# Altium integrated library TI Power Management Linear Regulator Single Channel LDO (400-7500mA).IntLib: 1408 symbols (part 9 of 60)
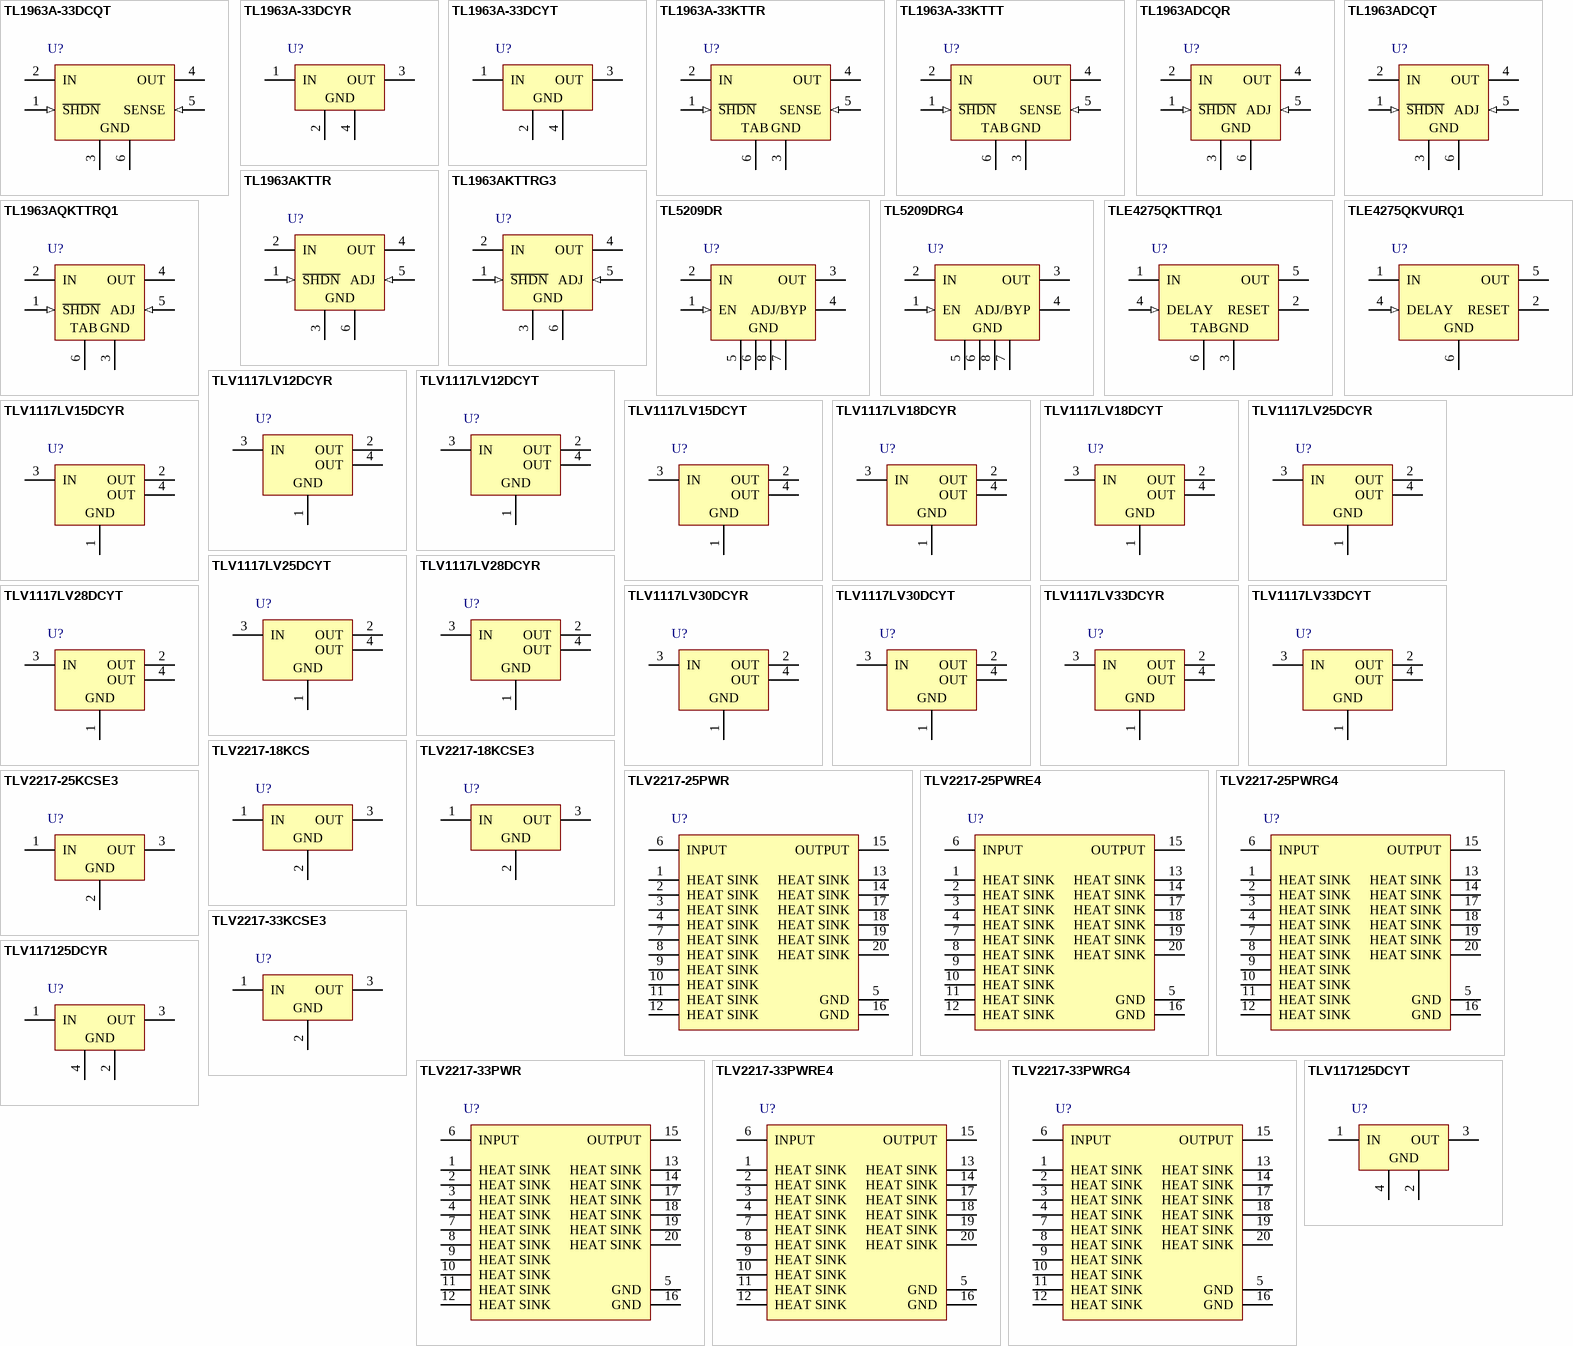
[diagram p58: symbols TL1963A-33DCQT to TLV117125DCYT]

## TLV1117LV33DCYT
designator U?
Single Output LDO, 1 A, Fixed 3.3 V Output, 2 to 5.5 V Input, 4-pin SOT-223 (DCY), -40 to 125 degC, Green (RoHS & no Sb/Br); Manufacturer: Texas Instruments; PartNumber: TLV1117LV33DCYT; Accuracy(%): 2; Fixed Output Options(V): 3.3; Iout(Max)(A): 1; Iq(Typ)(mA): 0.05; SubFamily: Single Channel LDO; Vdo(Typ)(mV): 1200; Vin(Max)(V): 5.5; DatasheetVersion: SBVS160A; PackageVersion: 4202506/B; PackageReference: DCY4; PackageDescription: 4-Pin Plastic Small Outline, Body 3.5 x 6.5 mm, Pitch 2.3 mm; Supplier 1: Digi-Key; Supplier Part Number 1: TLV1117LV33DCYT-ND; Supplier 2: Newark; Supplier Part Number 2: 48T4645; Supplier 3: Mouser; Supplier Part Number 3: 595-TLV1117LV33DCYT; Eco-Plan: Green (RoHS & no Sb/Br); Vin(Min)(V): 2; Vout Adj(Max)(V): 3.3; Vout Adj(Min)(V): 3.3; Mounting Technology: Surface Mount; Code_JEDEC: TO-261; ComponentLink1Description: Manufacturer URL; ComponentLink1URL: http://www.ti.com/; ComponentLink2Description: Datasheet; ComponentLink2URL: http://www.ti.com/general/docs/lit/getliterature.tsp?genericPartNumber=TLV1117LV33&fileType=pdf; ComponentLink3Description: Package Specification; ComponentLink3URL: http://www.ti.com/litv/pdf/mpds094a
footprint TI-DCY4_N (SOT223, 4-Leads, Body 6.5x3.5mm, Pitch 2.3mm, IPC Medium Density)
footprint TI-DCY4_L (SOT223, 4-Leads, Body 6.5x3.5mm, Pitch 2.3mm, IPC High Density)
footprint TI-DCY4_M (SOT223, 4-Leads, Body 6.5x3.5mm, Pitch 2.3mm, IPC Low Density)
pins: 1 GND (power) "Ground pin", 2 OUT (power) "Regulated output voltage pin.", 3 IN (power) "Input pin.", 4 OUT (power) "Regulated output voltage pin."

## TLV2217-18KCS
designator U?
Single Output LDO, 500 mA, Fixed 1.8 V Output, 3 to 12 V Input, with Thermal Overload Protection, 3-pin TO-220 (KCS), 0 to 125 degC, Pb-Free (RoHS); Manufacturer: Texas Instruments; PartNumber: TLV2217-18KCS; Accuracy(%): 2; Fixed Output Options(V): 1.8; Iout(Max)(A): 0.5; Iq(Typ)(mA): 0.19; Rating: Catalog; SubFamily: Single Channel LDO; Vdo(Typ)(mV): 500; Vin(Max)(V): 12; Vin(Min)(V): 3; DatasheetVersion: SLVS067L; PackageVersion: 4204749/E; PackageReference: KCS3; PackageDescription: 3-Pin Plastic Flange Mount; Supplier 1: Digi-Key; Supplier Part Number 1: 296-18905-5-ND; Supplier 2: Digi-Key; Supplier Part Number 2: 296-18905-2-ND; Supplier 3: Newark; Supplier Part Number 3: 21J9143; Supplier 4: Mouser; Supplier Part Number 4: 595-TLV2217-18KCS; Eco-Plan: Pb-Free (RoHS); Vout Adj(Max)(V): 1.8; Vout Adj(Min)(V): 1.8; Mounting Technology: Through Hole; Code_JEDEC: TO-220; ComponentLink1Description: Manufacturer URL; ComponentLink1URL: http://www.ti.com/; ComponentLink2Description: Datasheet; ComponentLink2URL: http://www.ti.com/general/docs/lit/getliterature.tsp?genericPartNumber=TLV2217-18&fileType=pdf; ComponentLink3Description: Package Specification; ComponentLink3URL: http://www.ti.com/litv/pdf/mpsf017d; ComponentLink4Description: URL Link1; ComponentLink4URL: Samples URL:http://www.ti.com/product/tlv2217-18#samples
footprint TI-KCS3 (Flange Mount, 3-Leads, Body 10.16x4.51mm, Pitch 2.54mm)
pins: 1 IN (power), 2 GND (power), 3 OUT (power)

## TLV2217-18KCSE3
designator U?
Single Output LDO, 500 mA, Fixed 1.8 V Output, 3 to 12 V Input, with Thermal Overload Protection, 3-pin TO-220 (KCS), 0 to 125 degC, Pb-Free (RoHS); Manufacturer: Texas Instruments; PartNumber: TLV2217-18KCSE3; Accuracy(%): 2; Fixed Output Options(V): 1.8; Iout(Max)(A): 0.5; Iq(Typ)(mA): 0.19; Rating: Catalog; SubFamily: Single Channel LDO; Vdo(Typ)(mV): 500; Vin(Max)(V): 12; Vin(Min)(V): 3; DatasheetVersion: SLVS067L; PackageVersion: 4204749/E; PackageReference: KCS3; PackageDescription: 3-Pin Plastic Flange Mount; Supplier 1: Digi-Key; Supplier Part Number 1: TLV2217-18KCSE3-ND; Supplier 2: Newark; Supplier Part Number 2: 70K5530; Supplier 3: Mouser; Supplier Part Number 3: 595-TLV2217-18KCSE3; Eco-Plan: Pb-Free (RoHS); Vout Adj(Max)(V): 1.8; Vout Adj(Min)(V): 1.8; Mounting Technology: Through Hole; Code_JEDEC: TO-220; ComponentLink1Description: Manufacturer URL; ComponentLink1URL: http://www.ti.com/; ComponentLink2Description: Datasheet; ComponentLink2URL: http://www.ti.com/general/docs/lit/getliterature.tsp?genericPartNumber=TLV2217-18&fileType=pdf; ComponentLink3Description: Package Specification; ComponentLink3URL: http://www.ti.com/litv/pdf/mpsf017d; ComponentLink4Description: URL Link1; ComponentLink4URL: Samples URL:http://www.ti.com/product/tlv2217-18#samples
footprint TI-KCS3 (Flange Mount, 3-Leads, Body 10.16x4.51mm, Pitch 2.54mm)
pins: 1 IN (power), 2 GND (power), 3 OUT (power)

## TLV2217-25KCSE3
designator U?
Single Output LDO, 500 mA, Fixed 2.5 V Output, 3 to 12 V Input, with Thermal Overload Protection, 3-pin TO-220 (KCS), 0 to 125 degC, Pb-Free (RoHS); Manufacturer: Texas Instruments; PartNumber: TLV2217-25KCSE3; Accuracy(%): 2; Fixed Output Options(V): 2.5; Iout(Max)(A): 0.5; Iq(Typ)(mA): 0.19; Rating: Catalog; SubFamily: Single Channel LDO; Vdo(Typ)(mV): 500; Vin(Max)(V): 12; Vin(Min)(V): 3; DatasheetVersion: SLVS067L; PackageVersion: 4204749/E; PackageReference: KCS3; PackageDescription: 3-Pin Plastic Flange Mount; Supplier 1: Digi-Key; Supplier Part Number 1: 296-21609-5-ND; Supplier 2: Newark; Supplier Part Number 2: 85K1638; Supplier 3: Mouser; Supplier Part Number 3: 595-TLV2217-25KCSE3; Eco-Plan: Pb-Free (RoHS); Vout Adj(Max)(V): 2.5; Vout Adj(Min)(V): 2.5; Mounting Technology: Through Hole; Code_JEDEC: TO-220; ComponentLink1Description: Manufacturer URL; ComponentLink1URL: http://www.ti.com/; ComponentLink2Description: Datasheet; ComponentLink2URL: http://www.ti.com/general/docs/lit/getliterature.tsp?genericPartNumber=TLV2217-25&fileType=pdf; ComponentLink3Description: Package Specification; ComponentLink3URL: http://www.ti.com/litv/pdf/mpsf017d; ComponentLink4Description: URL Link1; ComponentLink4URL: Samples URL:http://www.ti.com/product/tlv2217-25#samples
footprint TI-KCS3 (Flange Mount, 3-Leads, Body 10.16x4.51mm, Pitch 2.54mm)
pins: 1 IN (power), 2 GND (power), 3 OUT (power)

## TLV2217-25PWR
designator U?
Single Output LDO, 500 mA, Fixed 2.5 V Output, 3 to 12 V Input, with Thermal Overload Protection, 20-pin TSSOP (PW), 0 to 125 degC, Green (RoHS & no Sb/Br); Manufacturer: Texas Instruments; PartNumber: TLV2217-25PWR; Accuracy(%): 2; Fixed Output Options(V): 2.5; Iout(Max)(A): 0.5; Iq(Typ)(mA): 0.19; Rating: Catalog; SubFamily: Single Channel LDO; Vdo(Typ)(mV): 500; Vin(Max)(V): 12; Vin(Min)(V): 3; DatasheetVersion: SLVS067L; PackageVersion: 4040064-5/G; PackageReference: PW20; PackageDescription: 20-Pin Plastic Small Outline, Body 6.5 x 4.4 mm, 0.65 mm Pitch; Supplier 1: Digi-Key; Supplier Part Number 1: 296-18907-2-ND; Supplier 2: Digi-Key; Supplier Part Number 2: 296-18907-1-ND; Supplier 3: Digi-Key; Supplier Part Number 3: 296-18907-6-ND; Supplier 4: Mouser; Supplier Part Number 4: 595-TLV2217-25PWR; Eco-Plan: Green (RoHS & no Sb/Br); Vout Adj(Max)(V): 2.5; Vout Adj(Min)(V): 2.5; Mounting Technology: Surface Mount; Code_JEDEC: MO-153; ComponentLink1Description: Manufacturer URL; ComponentLink1URL: http://www.ti.com/; ComponentLink2Description: Datasheet; ComponentLink2URL: http://www.ti.com/general/docs/lit/getliterature.tsp?genericPartNumber=TLV2217-25&fileType=pdf; ComponentLink3Description: Package Specification; ComponentLink3URL: http://www.ti.com.cn/cn/lit/ml/mpds362/mpds362.pdf; ComponentLink4Description: URL Link1; ComponentLink4URL: Samples URL:http://www.ti.com/product/tlv2217-25#samples
footprint TI-PW20_N (SOP, 20-Leads, Body 6.5x4.4mm, Pitch 0.65mm, IPC Medium Density)
footprint TI-PW20_L (SOP, 20-Leads, Body 6.5x4.4mm, Pitch 0.65mm, IPC High Density)
footprint TI-PW20_M (SOP, 20-Leads, Body 6.5x4.4mm, Pitch 0.65mm, IPC Low Density)
pins: 1 HEAT SINK (power), 2 HEAT SINK (power), 3 HEAT SINK (power), 4 HEAT SINK (power), 5 GND (power), 6 INPUT (power), 7 HEAT SINK (power), 8 HEAT SINK (power), 9 HEAT SINK (power), 10 HEAT SINK (power), 11 HEAT SINK (power), 12 HEAT SINK (power), 13 HEAT SINK (power), 14 HEAT SINK (power), 15 OUTPUT (power), 16 GND (power), 17 HEAT SINK (power), 18 HEAT SINK (power), 19 HEAT SINK (power), 20 HEAT SINK (power)

## TLV2217-25PWRE4
designator U?
Single Output LDO, 500 mA, Fixed 2.5 V Output, 3 to 12 V Input, with Thermal Overload Protection, 20-pin TSSOP (PW), 0 to 125 degC, Green (RoHS & no Sb/Br); Manufacturer: Texas Instruments; PartNumber: TLV2217-25PWRE4; Accuracy(%): 2; Fixed Output Options(V): 2.5; Iout(Max)(A): 0.5; Iq(Typ)(mA): 0.19; Rating: Catalog; SubFamily: Single Channel LDO; Vdo(Typ)(mV): 500; Vin(Max)(V): 12; Vin(Min)(V): 3; DatasheetVersion: SLVS067L; PackageVersion: 4040064-5/G; PackageReference: PW20; PackageDescription: 20-Pin Plastic Small Outline, Body 6.5 x 4.4 mm, 0.65 mm Pitch; Supplier 1: Digi-Key; Supplier Part Number 1: TLV2217-25PWRE4-ND; Supplier 2: Newark; Supplier Part Number 2: 33K7257; Supplier 3: Mouser; Supplier Part Number 3: 595-TLV2217-25PWRE4; Eco-Plan: Green (RoHS & no Sb/Br); Vout Adj(Max)(V): 2.5; Vout Adj(Min)(V): 2.5; Mounting Technology: Surface Mount; Code_JEDEC: MO-153; ComponentLink1Description: Manufacturer URL; ComponentLink1URL: http://www.ti.com/; ComponentLink2Description: Datasheet; ComponentLink2URL: http://www.ti.com/general/docs/lit/getliterature.tsp?genericPartNumber=TLV2217-25&fileType=pdf; ComponentLink3Description: Package Specification; ComponentLink3URL: http://www.ti.com.cn/cn/lit/ml/mpds362/mpds362.pdf; ComponentLink4Description: URL Link1; ComponentLink4URL: Samples URL:http://www.ti.com/product/tlv2217-25#samples
footprint TI-PW20_N (SOP, 20-Leads, Body 6.5x4.4mm, Pitch 0.65mm, IPC Medium Density)
footprint TI-PW20_L (SOP, 20-Leads, Body 6.5x4.4mm, Pitch 0.65mm, IPC High Density)
footprint TI-PW20_M (SOP, 20-Leads, Body 6.5x4.4mm, Pitch 0.65mm, IPC Low Density)
pins: 1 HEAT SINK (power), 2 HEAT SINK (power), 3 HEAT SINK (power), 4 HEAT SINK (power), 5 GND (power), 6 INPUT (power), 7 HEAT SINK (power), 8 HEAT SINK (power), 9 HEAT SINK (power), 10 HEAT SINK (power), 11 HEAT SINK (power), 12 HEAT SINK (power), 13 HEAT SINK (power), 14 HEAT SINK (power), 15 OUTPUT (power), 16 GND (power), 17 HEAT SINK (power), 18 HEAT SINK (power), 19 HEAT SINK (power), 20 HEAT SINK (power)

## TLV2217-25PWRG4
designator U?
Single Output LDO, 500 mA, Fixed 2.5 V Output, 3 to 12 V Input, with Thermal Overload Protection, 20-pin TSSOP (PW), 0 to 125 degC, Green (RoHS & no Sb/Br); Manufacturer: Texas Instruments; PartNumber: TLV2217-25PWRG4; Accuracy(%): 2; Fixed Output Options(V): 2.5; Iout(Max)(A): 0.5; Iq(Typ)(mA): 0.19; Rating: Catalog; SubFamily: Single Channel LDO; Vdo(Typ)(mV): 500; Vin(Max)(V): 12; Vin(Min)(V): 3; DatasheetVersion: SLVS067L; PackageVersion: 4040064-5/G; PackageReference: PW20; PackageDescription: 20-Pin Plastic Small Outline, Body 6.5 x 4.4 mm, 0.65 mm Pitch; Supplier 1: Digi-Key; Supplier Part Number 1: TLV2217-25PWRG4-ND; Supplier 2: Mouser; Supplier Part Number 2: 595-TLV2217-25PWRG4; Eco-Plan: Green (RoHS & no Sb/Br); Vout Adj(Max)(V): 2.5; Vout Adj(Min)(V): 2.5; Mounting Technology: Surface Mount; Code_JEDEC: MO-153; ComponentLink1Description: Manufacturer URL; ComponentLink1URL: http://www.ti.com/; ComponentLink2Description: Datasheet; ComponentLink2URL: http://www.ti.com/general/docs/lit/getliterature.tsp?genericPartNumber=TLV2217-25&fileType=pdf; ComponentLink3Description: Package Specification; ComponentLink3URL: http://www.ti.com.cn/cn/lit/ml/mpds362/mpds362.pdf; ComponentLink4Description: URL Link1; ComponentLink4URL: Samples URL:http://www.ti.com/product/tlv2217-25#samples
footprint TI-PW20_N (SOP, 20-Leads, Body 6.5x4.4mm, Pitch 0.65mm, IPC Medium Density)
footprint TI-PW20_L (SOP, 20-Leads, Body 6.5x4.4mm, Pitch 0.65mm, IPC High Density)
footprint TI-PW20_M (SOP, 20-Leads, Body 6.5x4.4mm, Pitch 0.65mm, IPC Low Density)
pins: 1 HEAT SINK (power), 2 HEAT SINK (power), 3 HEAT SINK (power), 4 HEAT SINK (power), 5 GND (power), 6 INPUT (power), 7 HEAT SINK (power), 8 HEAT SINK (power), 9 HEAT SINK (power), 10 HEAT SINK (power), 11 HEAT SINK (power), 12 HEAT SINK (power), 13 HEAT SINK (power), 14 HEAT SINK (power), 15 OUTPUT (power), 16 GND (power), 17 HEAT SINK (power), 18 HEAT SINK (power), 19 HEAT SINK (power), 20 HEAT SINK (power)

## TLV2217-33KCSE3
designator U?
Single Output LDO, 500 mA, Fixed 3.3 V Output, 3 to 12 V Input, with Thermal Overload Protection, 3-pin TO-220 (KCS), 0 to 125 degC, Pb-Free (RoHS); Manufacturer: Texas Instruments; PartNumber: TLV2217-33KCSE3; Accuracy(%): 2; Fixed Output Options(V): 3.3; Iout(Max)(A): 0.5; Iq(Typ)(mA): 0.29; Rating: Military; SubFamily: Single Channel LDO; Vdo(Typ)(mV): 500; Vin(Max)(V): 12; Vin(Min)(V): 3; DatasheetVersion: SLVS067L; PackageVersion: 4204749/E; PackageReference: KCS3; PackageDescription: 3-Pin Plastic Flange Mount; Supplier 1: Digi-Key; Supplier Part Number 1: 296-21611-5-ND; Supplier 2: Newark; Supplier Part Number 2: 84K3791; Supplier 3: Mouser; Supplier Part Number 3: 595-TLV2217-33KCSE3; Eco-Plan: Pb-Free (RoHS); Vout Adj(Max)(V): 3.3; Vout Adj(Min)(V): 3.3; Mounting Technology: Through Hole; Code_JEDEC: TO-220; ComponentLink1Description: Manufacturer URL; ComponentLink1URL: http://www.ti.com/; ComponentLink2Description: Datasheet; ComponentLink2URL: http://www.ti.com/general/docs/lit/getliterature.tsp?genericPartNumber=TLV2217-33&fileType=pdf; ComponentLink3Description: Package Specification; ComponentLink3URL: http://www.ti.com/litv/pdf/mpsf017d; ComponentLink4Description: URL Link1; ComponentLink4URL: Samples URL:http://www.ti.com/product/tlv2217-33#samples
footprint TI-KCS3 (Flange Mount, 3-Leads, Body 10.16x4.51mm, Pitch 2.54mm)
pins: 1 IN (power), 2 GND (power), 3 OUT (power)

## TLV2217-33PWR
designator U?
Single Output LDO, 500 mA, Fixed 3.3 V Output, 3 to 12 V Input, with Thermal Overload Protection, 20-pin TSSOP (PW), 0 to 125 degC, Green (RoHS & no Sb/Br); Manufacturer: Texas Instruments; PartNumber: TLV2217-33PWR; Accuracy(%): 2; Fixed Output Options(V): 3.3; Iout(Max)(A): 0.5; Iq(Typ)(mA): 0.29; Rating: Military; SubFamily: Single Channel LDO; Vdo(Typ)(mV): 500; Vin(Max)(V): 12; Vin(Min)(V): 3; DatasheetVersion: SLVS067L; PackageVersion: 4040064-5/G; PackageReference: PW20; PackageDescription: 20-Pin Plastic Small Outline, Body 6.5 x 4.4 mm, 0.65 mm Pitch; Supplier 1: Digi-Key; Supplier Part Number 1: 296-12368-2-ND; Supplier 2: Digi-Key; Supplier Part Number 2: 296-12368-1-ND; Supplier 3: Digi-Key; Supplier Part Number 3: 296-12368-6-ND; Supplier 4: Newark; Supplier Part Number 4: 76C7832; Supplier 5: Mouser; Supplier Part Number 5: 595-TLV2217-33PWR; Eco-Plan: Green (RoHS & no Sb/Br); Vout Adj(Max)(V): 3.3; Vout Adj(Min)(V): 3.3; Mounting Technology: Surface Mount; Code_JEDEC: MO-153; ComponentLink1Description: Manufacturer URL; ComponentLink1URL: http://www.ti.com/; ComponentLink2Description: Datasheet; ComponentLink2URL: http://www.ti.com/general/docs/lit/getliterature.tsp?genericPartNumber=TLV2217-33&fileType=pdf; ComponentLink3Description: Package Specification; ComponentLink3URL: http://www.ti.com.cn/cn/lit/ml/mpds362/mpds362.pdf; ComponentLink4Description: URL Link1; ComponentLink4URL: Samples URL:http://www.ti.com/product/tlv2217-33#samples
footprint TI-PW20_N (SOP, 20-Leads, Body 6.5x4.4mm, Pitch 0.65mm, IPC Medium Density)
footprint TI-PW20_L (SOP, 20-Leads, Body 6.5x4.4mm, Pitch 0.65mm, IPC High Density)
footprint TI-PW20_M (SOP, 20-Leads, Body 6.5x4.4mm, Pitch 0.65mm, IPC Low Density)
pins: 1 HEAT SINK (power), 2 HEAT SINK (power), 3 HEAT SINK (power), 4 HEAT SINK (power), 5 GND (power), 6 INPUT (power), 7 HEAT SINK (power), 8 HEAT SINK (power), 9 HEAT SINK (power), 10 HEAT SINK (power), 11 HEAT SINK (power), 12 HEAT SINK (power), 13 HEAT SINK (power), 14 HEAT SINK (power), 15 OUTPUT (power), 16 GND (power), 17 HEAT SINK (power), 18 HEAT SINK (power), 19 HEAT SINK (power), 20 HEAT SINK (power)

## TLV2217-33PWRE4
designator U?
Single Output LDO, 500 mA, Fixed 3.3 V Output, 3 to 12 V Input, with Thermal Overload Protection, 20-pin TSSOP (PW), 0 to 125 degC, Green (RoHS & no Sb/Br); Manufacturer: Texas Instruments; PartNumber: TLV2217-33PWRE4; Accuracy(%): 2; Fixed Output Options(V): 3.3; Iout(Max)(A): 0.5; Iq(Typ)(mA): 0.29; Rating: Military; SubFamily: Single Channel LDO; Vdo(Typ)(mV): 500; Vin(Max)(V): 12; Vin(Min)(V): 3; DatasheetVersion: SLVS067L; PackageVersion: 4040064-5/G; PackageReference: PW20; PackageDescription: 20-Pin Plastic Small Outline, Body 6.5 x 4.4 mm, 0.65 mm Pitch; Supplier 1: Digi-Key; Supplier Part Number 1: TLV2217-33PWRE4-ND; Supplier 2: Newark; Supplier Part Number 2: 69K0621; Supplier 3: Mouser; Supplier Part Number 3: 595-TLV2217-33PWRE4; Eco-Plan: Green (RoHS & no Sb/Br); Vout Adj(Max)(V): 3.3; Vout Adj(Min)(V): 3.3; Mounting Technology: Surface Mount; Code_JEDEC: MO-153; ComponentLink1Description: Manufacturer URL; ComponentLink1URL: http://www.ti.com/; ComponentLink2Description: Datasheet; ComponentLink2URL: http://www.ti.com/general/docs/lit/getliterature.tsp?genericPartNumber=TLV2217-33&fileType=pdf; ComponentLink3Description: Package Specification; ComponentLink3URL: http://www.ti.com.cn/cn/lit/ml/mpds362/mpds362.pdf; ComponentLink4Description: URL Link1; ComponentLink4URL: Samples URL:http://www.ti.com/product/tlv2217-33#samples
footprint TI-PW20_N (SOP, 20-Leads, Body 6.5x4.4mm, Pitch 0.65mm, IPC Medium Density)
footprint TI-PW20_L (SOP, 20-Leads, Body 6.5x4.4mm, Pitch 0.65mm, IPC High Density)
footprint TI-PW20_M (SOP, 20-Leads, Body 6.5x4.4mm, Pitch 0.65mm, IPC Low Density)
pins: 1 HEAT SINK (power), 2 HEAT SINK (power), 3 HEAT SINK (power), 4 HEAT SINK (power), 5 GND (power), 6 INPUT (power), 7 HEAT SINK (power), 8 HEAT SINK (power), 9 HEAT SINK (power), 10 HEAT SINK (power), 11 HEAT SINK (power), 12 HEAT SINK (power), 13 HEAT SINK (power), 14 HEAT SINK (power), 15 OUTPUT (power), 16 GND (power), 17 HEAT SINK (power), 18 HEAT SINK (power), 19 HEAT SINK (power), 20 HEAT SINK (power)

## TLV2217-33PWRG4
designator U?
Single Output LDO, 500 mA, Fixed 3.3 V Output, 3 to 12 V Input, with Thermal Overload Protection, 20-pin TSSOP (PW), 0 to 125 degC, Green (RoHS & no Sb/Br); Manufacturer: Texas Instruments; PartNumber: TLV2217-33PWRG4; Accuracy(%): 2; Fixed Output Options(V): 3.3; Iout(Max)(A): 0.5; Iq(Typ)(mA): 0.29; Rating: Military; SubFamily: Single Channel LDO; Vdo(Typ)(mV): 500; Vin(Max)(V): 12; Vin(Min)(V): 3; DatasheetVersion: SLVS067L; PackageVersion: 4040064-5/G; PackageReference: PW20; PackageDescription: 20-Pin Plastic Small Outline, Body 6.5 x 4.4 mm, 0.65 mm Pitch; Supplier 1: Digi-Key; Supplier Part Number 1: TLV2217-33PWRG4-ND; Supplier 2: Mouser; Supplier Part Number 2: 595-TLV2217-33PWRG4; Eco-Plan: Green (RoHS & no Sb/Br); Vout Adj(Max)(V): 3.3; Vout Adj(Min)(V): 3.3; Mounting Technology: Surface Mount; Code_JEDEC: MO-153; ComponentLink1Description: Manufacturer URL; ComponentLink1URL: http://www.ti.com/; ComponentLink2Description: Datasheet; ComponentLink2URL: http://www.ti.com/general/docs/lit/getliterature.tsp?genericPartNumber=TLV2217-33&fileType=pdf; ComponentLink3Description: Package Specification; ComponentLink3URL: http://www.ti.com.cn/cn/lit/ml/mpds362/mpds362.pdf; ComponentLink4Description: URL Link1; ComponentLink4URL: Samples URL:http://www.ti.com/product/tlv2217-33#samples
footprint TI-PW20_N (SOP, 20-Leads, Body 6.5x4.4mm, Pitch 0.65mm, IPC Medium Density)
footprint TI-PW20_L (SOP, 20-Leads, Body 6.5x4.4mm, Pitch 0.65mm, IPC High Density)
footprint TI-PW20_M (SOP, 20-Leads, Body 6.5x4.4mm, Pitch 0.65mm, IPC Low Density)
pins: 1 HEAT SINK (power), 2 HEAT SINK (power), 3 HEAT SINK (power), 4 HEAT SINK (power), 5 GND (power), 6 INPUT (power), 7 HEAT SINK (power), 8 HEAT SINK (power), 9 HEAT SINK (power), 10 HEAT SINK (power), 11 HEAT SINK (power), 12 HEAT SINK (power), 13 HEAT SINK (power), 14 HEAT SINK (power), 15 OUTPUT (power), 16 GND (power), 17 HEAT SINK (power), 18 HEAT SINK (power), 19 HEAT SINK (power), 20 HEAT SINK (power)

## TLV117125DCYR
designator U?
Single Output LDO, 1 A, Fixed 2.5 V Output, 2 to 5.5 V Input, 4-pin SOT-223 (DCY), -40 to 125 degC, Green (RoHS & no Sb/Br); Manufacturer: Texas Instruments; PartNumber: TLV117125DCYR; Accuracy(%): 1.5; Fixed Output Options(V): 2.5; Iout(Max)(A): 1; Iq(Typ)(mA): 0.05; SubFamily: Single Channel LDO; Vdo(Typ)(mV): 285; Vin(Max)(V): 5.5; Vin(Min)(V): 2; DatasheetVersion: SBVS177; PackageVersion: 4202506/B; PackageReference: DCY4; PackageDescription: 4-Pin Plastic Small Outline, Body 3.5 x 6.5 mm, Pitch 2.3 mm; Supplier 1: Digi-Key; Supplier Part Number 1: TLV117125DCYR-ND; Supplier 2: Newark; Supplier Part Number 2: 47W7865; Supplier 3: Mouser; Supplier Part Number 3: 595-TLV117125DCYR; Eco-Plan: Green (RoHS & no Sb/Br); Vout Adj(Max)(V): 2.5; Vout Adj(Min)(V): 2.5; Mounting Technology: Surface Mount; Code_JEDEC: TO-261; ComponentLink1Description: Manufacturer URL; ComponentLink1URL: http://www.ti.com/; ComponentLink2Description: Datasheet; ComponentLink2URL: http://www.ti.com/general/docs/lit/getliterature.tsp?genericPartNumber=TLV117125&fileType=pdf; ComponentLink3Description: Package Specification; ComponentLink3URL: http://www.ti.com/litv/pdf/mpds094a
footprint TI-DCY4_N (SOT223, 4-Leads, Body 6.5x3.5mm, Pitch 2.3mm, IPC Medium Density)
footprint TI-DCY4_L (SOT223, 4-Leads, Body 6.5x3.5mm, Pitch 2.3mm, IPC High Density)
footprint TI-DCY4_M (SOT223, 4-Leads, Body 6.5x3.5mm, Pitch 2.3mm, IPC Low Density)
pins: 1 IN (power) "Input pin.", 2 GND (power) "Ground pin", 3 OUT (power) "Regulated output voltage pin", 4 GND (power) "Ground pin"

## TLV117125DCYT
designator U?
Single Output LDO, 1 A, Fixed 2.5 V Output, 2 to 5.5 V Input, 4-pin SOT-223 (DCY), -40 to 125 degC, Green (RoHS & no Sb/Br); Manufacturer: Texas Instruments; PartNumber: TLV117125DCYT; Accuracy(%): 1.5; Fixed Output Options(V): 2.5; Iout(Max)(A): 1; Iq(Typ)(mA): 0.05; SubFamily: Single Channel LDO; Vdo(Typ)(mV): 285; Vin(Max)(V): 5.5; Vin(Min)(V): 2; DatasheetVersion: SBVS177; PackageVersion: 4202506/B; PackageReference: DCY4; PackageDescription: 4-Pin Plastic Small Outline, Body 3.5 x 6.5 mm, Pitch 2.3 mm; Supplier 1: Digi-Key; Supplier Part Number 1: 296-35509-2-ND; Supplier 2: Digi-Key; Supplier Part Number 2: 296-35509-1-ND; Supplier 3: Digi-Key; Supplier Part Number 3: 296-35509-6-ND; Supplier 4: Farnell; Supplier Part Number 4: 2255009; Supplier 5: Newark; Supplier Part Number 5: 47W7866; Supplier 6: Newark; Supplier Part Number 6: 54W0148; Supplier 7: Mouser; Supplier Part Number 7: 595-TLV117125DCYT; Eco-Plan: Green (RoHS & no Sb/Br); Vout Adj(Max)(V): 2.5; Vout Adj(Min)(V): 2.5; Mounting Technology: Surface Mount; Code_JEDEC: TO-261; ComponentLink1Description: Manufacturer URL; ComponentLink1URL: http://www.ti.com/; ComponentLink2Description: Datasheet; ComponentLink2URL: http://www.ti.com/general/docs/lit/getliterature.tsp?genericPartNumber=TLV117125&fileType=pdf; ComponentLink3Description: Package Specification; ComponentLink3URL: http://www.ti.com/litv/pdf/mpds094a
footprint TI-DCY4_N (SOT223, 4-Leads, Body 6.5x3.5mm, Pitch 2.3mm, IPC Medium Density)
footprint TI-DCY4_L (SOT223, 4-Leads, Body 6.5x3.5mm, Pitch 2.3mm, IPC High Density)
footprint TI-DCY4_M (SOT223, 4-Leads, Body 6.5x3.5mm, Pitch 2.3mm, IPC Low Density)
pins: 1 IN (power) "Input pin.", 2 GND (power) "Ground pin", 3 OUT (power) "Regulated output voltage pin", 4 GND (power) "Ground pin"

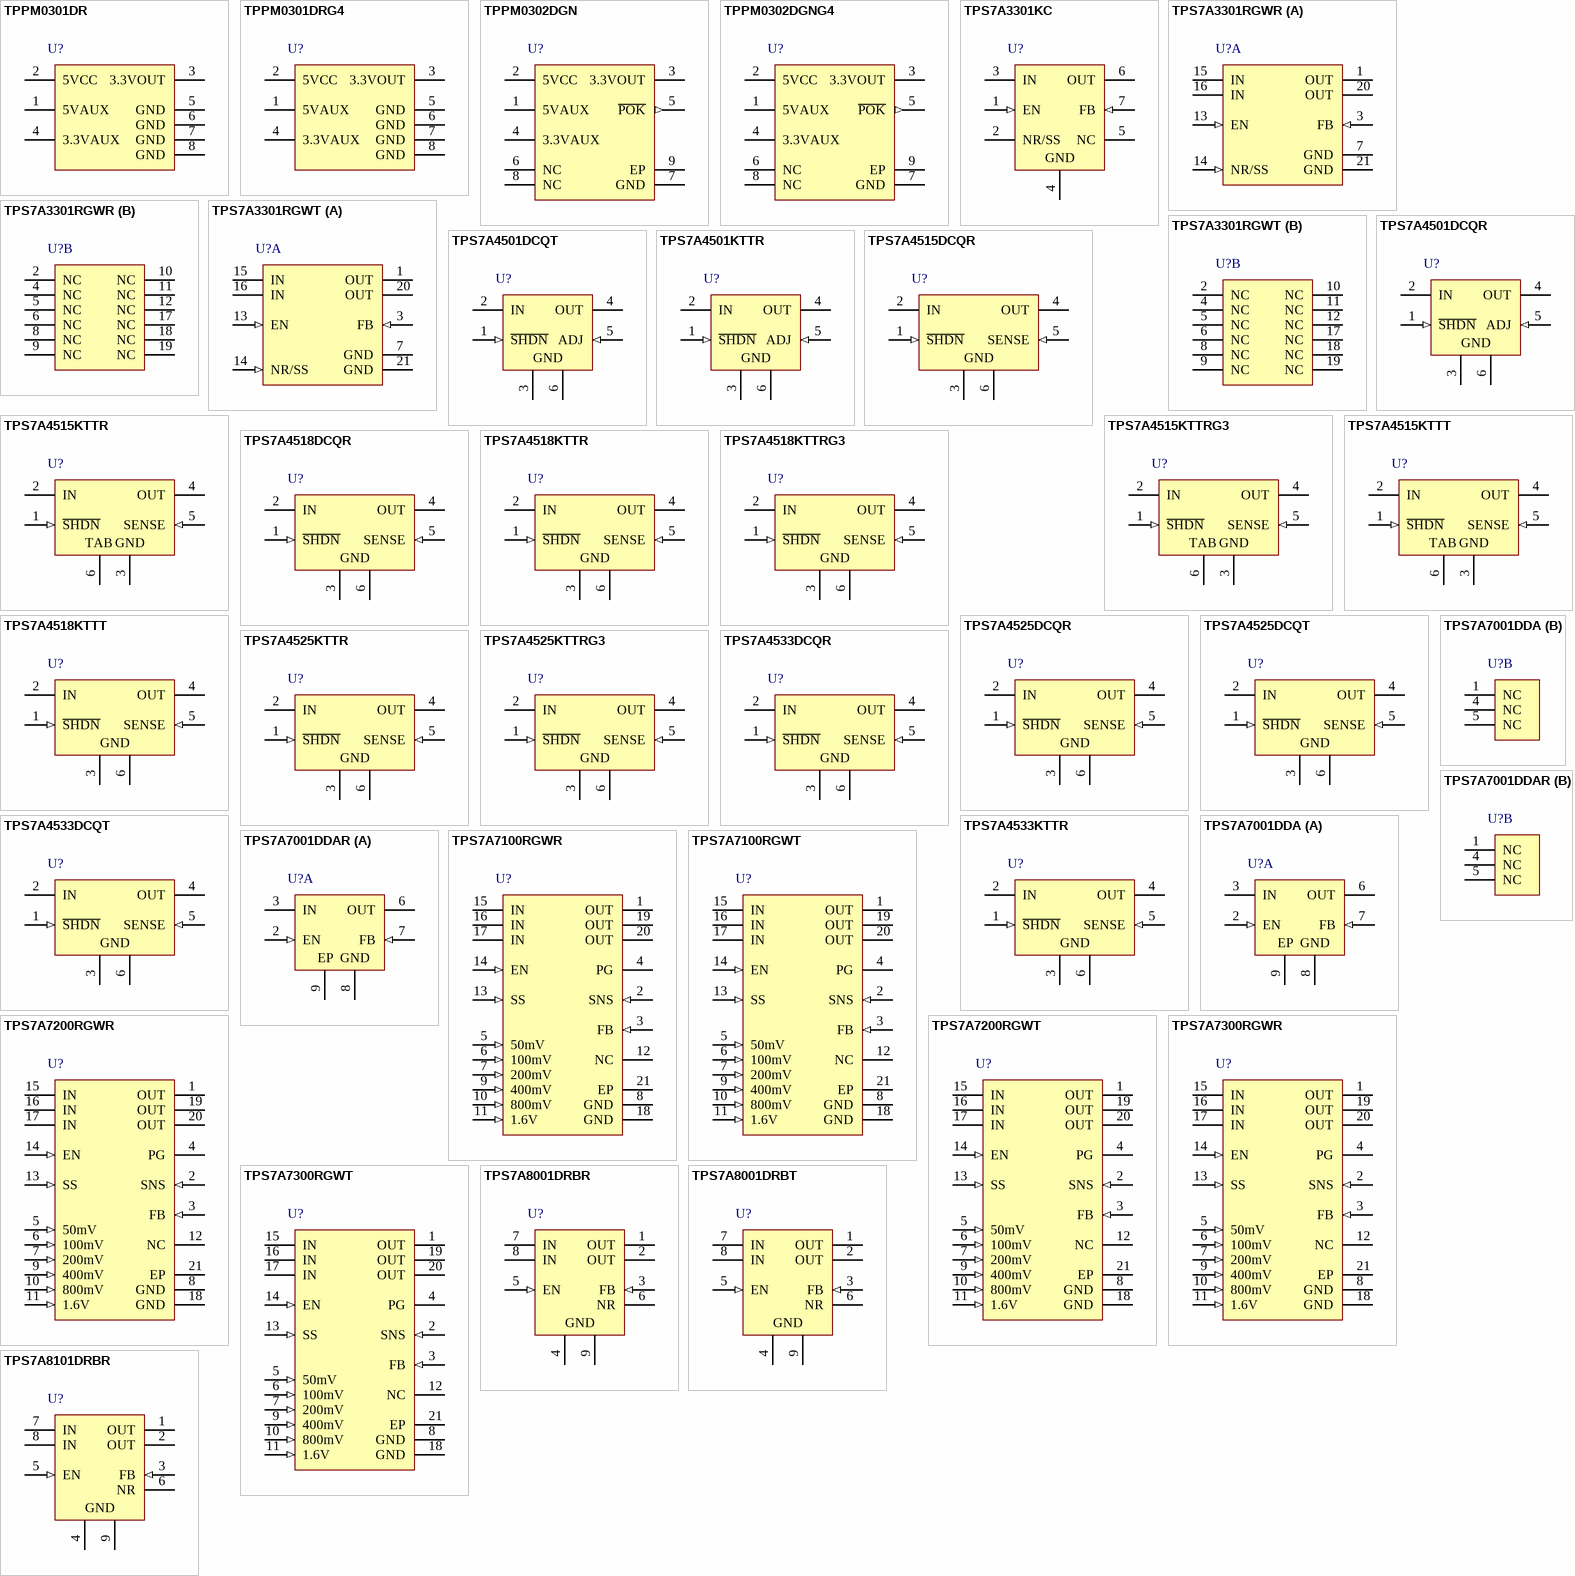
[diagram p6: symbols TPPM0301DR to TPS7A8101DRBR]

## TPPM0301DR
designator U?
Single Output LDO, 400 mA, Fixed 3.3 V Output, 4.5 to 5.5 V Input, with Reverse Current Blocking, 8-pin SOIC (D), 0 to 70 degC, Green (RoHS & no Sb/Br); Manufacturer: Texas Instruments; PartNumber: TPPM0301DR; Iout(Max)(A): 0.4; Iq(Typ)(mA): 2.5; Rating: Catalog; SubFamily: Single Channel LDO; Vdo(Typ)(mV): 0.1; Vin(Max)(V): 5.5; Vin(Min)(V): 4.5; Vout Adj(Max)(V): 3.3; DatasheetVersion: SLVS315; PackageVersion: 4040047-3/M; PackageReference: D8; PackageDescription: 8-Pin Plastic Small Outline, Body 4.9 x 3.9 mm, Pitch 1.27 mm; Supplier 1: Digi-Key; Supplier Part Number 1: 296-10873-2-ND; Supplier 2: Digi-Key; Supplier Part Number 2: 296-10873-1-ND; Supplier 3: Digi-Key; Supplier Part Number 3: 296-10873-6-ND; Supplier 4: Newark; Supplier Part Number 4: 76C9926; Supplier 5: Mouser; Supplier Part Number 5: 595-TPPM0301DR; Eco-Plan: Green (RoHS & no Sb/Br); Vout Adj(Min)(V): 3.3; Mounting Technology: Surface Mount; Code_JEDEC: MS-012; ComponentLink1Description: Manufacturer URL; ComponentLink1URL: http://www.ti.com/; ComponentLink2Description: Datasheet; ComponentLink2URL: http://www.ti.com/general/docs/lit/getliterature.tsp?genericPartNumber=TPPM0301&fileType=pdf; ComponentLink3Description: Package Specification; ComponentLink3URL: http://www.ti.com/litv/pdf/msoi002j
footprint TI-D8_N (SOIC, 8-Leads, Body 4.9x3.9mm, Pitch 1.27mm, IPC Medium Density)
footprint TI-D8_L (SOIC, 8-Leads, Body 4.9x3.9mm, Pitch 1.27mm, IPC High Density)
footprint TI-D8_M (SOIC, 8-Leads, Body 4.9x3.9mm, Pitch 1.27mm, IPC Low Density)
pins: 1 5VAUX (power) "5-V auxiliary input", 2 5VCC (power) "5-V main input", 3 3.3VOUT (power) "3.3-V output with a typical capacitance load of 4.7 mF", 4 3.3VAUX (power) "3.3-V auxiliary input", 5 GND (power) "Ground", 6 GND (power) "Ground", 7 GND (power) "Ground", 8 GND (power) "Ground"

## TPPM0301DRG4
designator U?
Single Output LDO, 400 mA, Fixed 3.3 V Output, 4.5 to 5.5 V Input, with Reverse Current Blocking, 8-pin SOIC (D), 0 to 70 degC, Green (RoHS & no Sb/Br); Manufacturer: Texas Instruments; PartNumber: TPPM0301DRG4; Iout(Max)(A): 0.4; Iq(Typ)(mA): 2.5; Rating: Catalog; SubFamily: Single Channel LDO; Vdo(Typ)(mV): 0.1; Vin(Max)(V): 5.5; Vin(Min)(V): 4.5; Vout Adj(Max)(V): 3.3; DatasheetVersion: SLVS315; PackageVersion: 4040047-3/M; PackageReference: D8; PackageDescription: 8-Pin Plastic Small Outline, Body 4.9 x 3.9 mm, Pitch 1.27 mm; Supplier 1: Digi-Key; Supplier Part Number 1: TPPM0301DRG4-ND; Supplier 2: Mouser; Supplier Part Number 2: 595-TPPM0301DRG4; Eco-Plan: Green (RoHS & no Sb/Br); Vout Adj(Min)(V): 3.3; Mounting Technology: Surface Mount; Code_JEDEC: MS-012; ComponentLink1Description: Manufacturer URL; ComponentLink1URL: http://www.ti.com/; ComponentLink2Description: Datasheet; ComponentLink2URL: http://www.ti.com/general/docs/lit/getliterature.tsp?genericPartNumber=TPPM0301&fileType=pdf; ComponentLink3Description: Package Specification; ComponentLink3URL: http://www.ti.com/litv/pdf/msoi002j
footprint TI-D8_N (SOIC, 8-Leads, Body 4.9x3.9mm, Pitch 1.27mm, IPC Medium Density)
footprint TI-D8_L (SOIC, 8-Leads, Body 4.9x3.9mm, Pitch 1.27mm, IPC High Density)
footprint TI-D8_M (SOIC, 8-Leads, Body 4.9x3.9mm, Pitch 1.27mm, IPC Low Density)
pins: 1 5VAUX (power) "5-V auxiliary input", 2 5VCC (power) "5-V main input", 3 3.3VOUT (power) "3.3-V output with a typical capacitance load of 4.7 mF", 4 3.3VAUX (power) "3.3-V auxiliary input", 5 GND (power) "Ground", 6 GND (power) "Ground", 7 GND (power) "Ground", 8 GND (power) "Ground"

## TPPM0302DGN
designator U?
Single Output LDO, 400 mA, Fixed 3.3 V Output, 4.5 to 5.5 V Input, with Reverse Current Blocking, 8-pin MSOP (DGN), 0 to 70 degC, Green (RoHS & no Sb/Br); Manufacturer: Texas Instruments; PartNumber: TPPM0302DGN; Fixed Output Options(V): 3.3; Iout(Max)(A): 0.4; Iq(Typ)(mA): 2.5; Rating: Catalog; SubFamily: Single Channel LDO; Vdo(Typ)(mV): 0.1; Vin(Max)(V): 5.5; Vin(Min)(V): 4.5; DatasheetVersion: SLVS316; PackageVersion: 4073271/F; PackageReference: DGN8-1760X1425TP; PackageDescription: 8-pin Plastic Small Outline, Body 3 x 3 mm, Pitch 0.65 mm; Supplier 1: Digi-Key; Supplier Part Number 1: 296-10874-5-ND; Supplier 2: Mouser; Supplier Part Number 2: 595-TPPM0302DGN; Eco-Plan: Green (RoHS & no Sb/Br); Mounting Technology: Surface Mount; Code_JEDEC: MO-187; ComponentLink1Description: Manufacturer URL; ComponentLink1URL: http://www.ti.com/; ComponentLink2Description: Datasheet; ComponentLink2URL: http://www.ti.com/general/docs/lit/getliterature.tsp?genericPartNumber=TPPM0302&fileType=pdf; ComponentLink3Description: Package Specification; ComponentLink3URL: http://www.ti.com/litv/pdf/mpds046e
footprint TI-DGN8-1760X1425TP_N (SOIC, 8-Leads, Body 3x3mm, Pitch 0.65mm, Thermal Pad 1.76x1.425mm, IPC Medium Density)
footprint TI-DGN8-1760X1425TP_L (SOIC, 8-Leads, Body 3x3mm, Pitch 0.65mm, Thermal Pad 1.76x1.425mm, IPC High Density)
footprint TI-DGN8-1760X1425TP_M (SOIC, 8-Leads, Body 3x3mm, Pitch 0.65mm, Thermal Pad 1.76x1.425mm, IPC Low Density)
pins: 1 5VAUX (power) "5-V auxiliary input", 2 5VCC (power) "5-V main input", 3 3.3VOUT (power) "3.3-V output with a typical capacitance load of 4.7 uF", 4 3.3VAUX (power) "3.3-V auxiliary input", 5 ~{POK} (out) "Power OK", 6 NC "No internal connection", 7 GND (power) "Ground", 8 NC "No internal connection", 9 EP (power) "Exposed thermal pad"

## TPPM0302DGNG4
designator U?
Single Output LDO, 400 mA, Fixed 3.3 V Output, 4.5 to 5.5 V Input, with Reverse Current Blocking, 8-pin MSOP (DGN), 0 to 70 degC, Green (RoHS & no Sb/Br); Manufacturer: Texas Instruments; PartNumber: TPPM0302DGNG4; Fixed Output Options(V): 3.3; Iout(Max)(A): 0.4; Iq(Typ)(mA): 2.5; Rating: Catalog; SubFamily: Single Channel LDO; Vdo(Typ)(mV): 0.1; Vin(Max)(V): 5.5; Vin(Min)(V): 4.5; DatasheetVersion: SLVS316; PackageVersion: 4073271/F; PackageReference: DGN8-1760X1425TP; PackageDescription: 8-pin Plastic Small Outline, Body 3 x 3 mm, Pitch 0.65 mm; Supplier 1: Digi-Key; Supplier Part Number 1: TPPM0302DGNG4-ND; Supplier 2: Mouser; Supplier Part Number 2: 595-TPPM0302DGNG4; Eco-Plan: Green (RoHS & no Sb/Br); Mounting Technology: Surface Mount; Code_JEDEC: MO-187; ComponentLink1Description: Manufacturer URL; ComponentLink1URL: http://www.ti.com/; ComponentLink2Description: Datasheet; ComponentLink2URL: http://www.ti.com/general/docs/lit/getliterature.tsp?genericPartNumber=TPPM0302&fileType=pdf; ComponentLink3Description: Package Specification; ComponentLink3URL: http://www.ti.com/litv/pdf/mpds046e
footprint TI-DGN8-1760X1425TP_N (SOIC, 8-Leads, Body 3x3mm, Pitch 0.65mm, Thermal Pad 1.76x1.425mm, IPC Medium Density)
footprint TI-DGN8-1760X1425TP_L (SOIC, 8-Leads, Body 3x3mm, Pitch 0.65mm, Thermal Pad 1.76x1.425mm, IPC High Density)
footprint TI-DGN8-1760X1425TP_M (SOIC, 8-Leads, Body 3x3mm, Pitch 0.65mm, Thermal Pad 1.76x1.425mm, IPC Low Density)
pins: 1 5VAUX (power) "5-V auxiliary input", 2 5VCC (power) "5-V main input", 3 3.3VOUT (power) "3.3-V output with a typical capacitance load of 4.7 uF", 4 3.3VAUX (power) "3.3-V auxiliary input", 5 ~{POK} (out) "Power OK", 6 NC "No internal connection", 7 GND (power) "Ground", 8 NC "No internal connection", 9 EP (power) "Exposed thermal pad"

## TPS7A3301KC
designator U?
Single Output High PSRR LDO, 1 A, Adjustable -1.18 to -33 V Output, -3 to -36 V Input, with Ultra-Low Noise, 7-pin TO-220 (KC), -40 to 125 degC, Pb-Free (RoHS); Manufacturer: Texas Instruments; PartNumber: TPS7A3301KC; Accuracy(%): 1.5; Iout(Max)(A): 1; Iq(Typ)(mA): 0.21; SubFamily: Single Channel LDO; Vdo(Typ)(mV): 290; DatasheetVersion: SBVS169B; PackageVersion: 4040251/B; PackageReference: KC7; PackageDescription: 7-Pin Plastic Flange Mount; Supplier 1: Digi-Key; Supplier Part Number 1: TPS7A3301KC-ND; Supplier 2: Newark; Supplier Part Number 2: 76T8163; Supplier 3: Mouser; Supplier Part Number 3: 595-TPS7A3301KC; Eco-Plan: Pb-Free (RoHS); Vin(Max)(V): -36; Vin(Min)(V): -3; Vout Adj(Max)(V): -33; Vout Adj(Min)(V): -1.18; Mounting Technology: Through Hole; ComponentLink1Description: Manufacturer URL; ComponentLink1URL: http://www.ti.com/; ComponentLink2Description: Datasheet; ComponentLink2URL: http://www.ti.com/general/docs/lit/getliterature.tsp?genericPartNumber=TPS7A3301&fileType=pdf; ComponentLink3Description: Package Specification; ComponentLink3URL: http://www.ti.com/litv/pdf/msot010
footprint TI-KC7 (Flange Mount, 7-Leads, Body 10.16x4.58mm, Pitch 1.27mm)
pins: 1 EN (in) "This pin turns the regulator on or off. If VEN>= V+EN_HI or VEN =< V-EN_HI, the regulator is enabled. If V+EN_LO>= VEN>= V-EN_LO, the regulator is disabled. The EN pin can be connected to IN, if not used. |VEN|=< |VIN|.", 2 NR/SS "Noise reduction pin. A capacitor connected from this pin to GND controls the soft-start function and allows RMS noise to be reduced to very low levels. It is recommended to connect a 1-uF capacitor from NR/SS to GND (as (See Datasheet)", 3 IN (power) "Input supply. A capacitor greater than or equal to 10 uF must be tied from this pin to ground to assure stability. It is recommended to connect a 10-uF capacitor from IN to GND (as close to the device as possible) to reduce (See Datasheet)", 4 GND (power) "Ground", 5 NC "This pin can be left open or tied to any voltage between GND and IN.", 6 OUT (power) "Regulator output. A capacitor greater than or equal to 10 uF must be tied from this pin to ground to assure stability. It is  recommended to connect a 47-uF ceramic capacitor from OUT to GND (as close to the device as (See Datasheet)", 7 FB (in) "This pin is the input to the control-loop error amplifier. It is used to set the output voltage of the device. It is recommended to connect a 0.01-uF capacitor from FB to OUT (as close to the device as possible) to maximize (See Datasheet)"

## TPS7A3301RGWR
designator U?
Single Output High PSRR LDO, 1 A, Adjustable -1.18 to -33 V Output, -3 to -36 V Input, with Ultra-Low Noise, 20-pin VQFN (RGW), -40 to 125 degC, Green (RoHS & no Sb/Br); Manufacturer: Texas Instruments; PartNumber: TPS7A3301RGWR; Accuracy(%): 1.5; Iout(Max)(A): 1; Iq(Typ)(mA): 0.21; SubFamily: Single Channel LDO; Vdo(Typ)(mV): 290; DatasheetVersion: SBVS169B; PackageReference: RGW20-3150X3150TP; PackageDescription: 20-Pin Plastic Quad Flat No-Pin, 5 x 5 mm Body, 0.65 mm Pitch, 3.15 x 3.15 mm Exposed Pad; Supplier 1: Digi-Key; Supplier Part Number 1: TPS7A3301RGWR-ND; Supplier 2: Newark; Supplier Part Number 2: 44W3265; Supplier 3: Mouser; Supplier Part Number 3: 595-TPS7A3301RGWR; Eco-Plan: Green (RoHS & no Sb/Br); Vin(Max)(V): -36; Vin(Min)(V): -3; Vout Adj(Max)(V): -33; Vout Adj(Min)(V): -1.18; Mounting Technology: Surface Mount; Code_JEDEC: MO-220; ComponentLink1Description: Manufacturer URL; ComponentLink1URL: http://www.ti.com/; ComponentLink2Description: Datasheet; ComponentLink2URL: http://www.ti.com/general/docs/lit/getliterature.tsp?genericPartNumber=TPS7A3301&fileType=pdf; ComponentLink3Description: Package Specification; ComponentLink3URL: http://www.ti.com/litv/pdf/mpqf122b
footprint TI-RGW20-3150X3150TP_V (QFN, 20-Leads, Body 5x5mm, Pitch 0.65mm, Thermal Pad 3.15x3.15mm)
part A pins: 1 OUT (power) "Regulator output. A capacitor greater than or equal to 10 uF must be tied from this pin to ground to assure stability. It is  recommended to connect a 47-uF ceramic capacitor from OUT to GND (as close to the device as (See Datasheet)", 3 FB (in) "This pin is the input to the control-loop error amplifier. It is used to set the output voltage of the device. It is recommended to connect a 0.01-uF capacitor from FB to OUT (as close to the device as possible) to maximize (See Datasheet)", 7 GND (power) "Ground", 13 EN (in) "This pin turns the regulator on or off. If VEN >=V+EN_HI or VEN=< V-EN_HI, the regulator is enabled. If V+EN_LO>= VEN>= V-EN_LO, the regulator is disabled. The EN pin can be connected to IN, if not used. |VEN| =<|VIN|.", 14 NR/SS (in) "Noise reduction pin. A capacitor connected from this pin to GND controls the soft-start function and allows RMS noise to  be reduced to very low levels. It is recommended to connect a 1-uF capacitor from NR/SS to GND (as (See Datasheet)", 15 IN (power) "Input supply. A capacitor greater than or equal to 10 nF must be tied from this pin to ground to assure stability. It is  recommended to connect a 10-uF capacitor from IN to GND (as close to the device as possible) to reduce (See Datasheet)", 16 IN (power) "Input supply. A capacitor greater than or equal to 10 nF must be tied from this pin to ground to assure stability. It is  recommended to connect a 10-uF capacitor from IN to GND (as close to the device as possible) to reduce (See Datasheet)", 20 OUT (power) "Regulator output. A capacitor greater than or equal to 10 uF must be tied from this pin to ground to assure stability. It is  recommended to connect a 47-uF ceramic capacitor from OUT to GND (as close to the device as (See Datasheet)", 21 GND (power) "TAB is internally connected to GND. An external heatsink can be installed to provide additional thermal performance."
part B pins: 2 NC "This pin can be left open or tied to any voltage between GND and IN.", 4 NC "This pin can be left open or tied to any voltage between GND and IN.", 5 NC "This pin can be left open or tied to any voltage between GND and IN.", 6 NC "This pin can be left open or tied to any voltage between GND and IN.", 8 NC "This pin can be left open or tied to any voltage between GND and IN.", 9 NC "This pin can be left open or tied to any voltage between GND and IN.", 10 NC "This pin can be left open or tied to any voltage between GND and IN.", 11 NC "This pin can be left open or tied to any voltage between GND and IN.", 12 NC "This pin can be left open or tied to any voltage between GND and IN.", 17 NC "This pin can be left open or tied to any voltage between GND and IN.", 18 NC "This pin can be left open or tied to any voltage between GND and IN.", 19 NC "This pin can be left open or tied to any voltage between GND and IN."

## TPS7A3301RGWT
designator U?
Single Output High PSRR LDO, 1 A, Adjustable -1.18 to -33 V Output, -3 to -36 V Input, with Ultra-Low Noise, 20-pin VQFN (RGW), -40 to 125 degC, Green (RoHS & no Sb/Br); Manufacturer: Texas Instruments; PartNumber: TPS7A3301RGWT; Accuracy(%): 1.5; Iout(Max)(A): 1; Iq(Typ)(mA): 0.21; SubFamily: Single Channel LDO; Vdo(Typ)(mV): 290; DatasheetVersion: SBVS169B; PackageReference: RGW20-3150X3150TP; PackageDescription: 20-Pin Plastic Quad Flat No-Pin, 5 x 5 mm Body, 0.65 mm Pitch, 3.15 x 3.15 mm Exposed Pad; Supplier 1: Digi-Key; Supplier Part Number 1: 296-34830-2-ND; Supplier 2: Digi-Key; Supplier Part Number 2: 296-34830-1-ND; Supplier 3: Digi-Key; Supplier Part Number 3: 296-34830-6-ND; Supplier 4: Farnell; Supplier Part Number 4: 2214998; Supplier 5: Newark; Supplier Part Number 5: 46W2209; Supplier 6: Newark; Supplier Part Number 6: 44W3266; Supplier 7: Mouser; Supplier Part Number 7: 595-TPS7A3301RGWT; Eco-Plan: Green (RoHS & no Sb/Br); Vin(Max)(V): -36; Vin(Min)(V): -3; Vout Adj(Max)(V): -33; Vout Adj(Min)(V): -1.18; Mounting Technology: Surface Mount; Code_JEDEC: MO-220; ComponentLink1Description: Manufacturer URL; ComponentLink1URL: http://www.ti.com/; ComponentLink2Description: Datasheet; ComponentLink2URL: http://www.ti.com/general/docs/lit/getliterature.tsp?genericPartNumber=TPS7A3301&fileType=pdf; ComponentLink3Description: Package Specification; ComponentLink3URL: http://www.ti.com/litv/pdf/mpqf122b
footprint TI-RGW20-3150X3150TP_V (QFN, 20-Leads, Body 5x5mm, Pitch 0.65mm, Thermal Pad 3.15x3.15mm)
part A pins: 1 OUT (power) "Regulator output. A capacitor greater than or equal to 10 uF must be tied from this pin to ground to assure stability. It is  recommended to connect a 47-uF ceramic capacitor from OUT to GND (as close to the device as (See Datasheet)", 3 FB (in) "This pin is the input to the control-loop error amplifier. It is used to set the output voltage of the device. It is recommended to connect a 0.01-uF capacitor from FB to OUT (as close to the device as possible) to maximize (See Datasheet)", 7 GND (power) "Ground", 13 EN (in) "This pin turns the regulator on or off. If VEN >=V+EN_HI or VEN=< V-EN_HI, the regulator is enabled. If V+EN_LO>= VEN>= V-EN_LO, the regulator is disabled. The EN pin can be connected to IN, if not used. |VEN| =<|VIN|.", 14 NR/SS (in) "Noise reduction pin. A capacitor connected from this pin to GND controls the soft-start function and allows RMS noise to  be reduced to very low levels. It is recommended to connect a 1-uF capacitor from NR/SS to GND (as (See Datasheet)", 15 IN (power) "Input supply. A capacitor greater than or equal to 10 nF must be tied from this pin to ground to assure stability. It is  recommended to connect a 10-uF capacitor from IN to GND (as close to the device as possible) to reduce (See Datasheet)", 16 IN (power) "Input supply. A capacitor greater than or equal to 10 nF must be tied from this pin to ground to assure stability. It is  recommended to connect a 10-uF capacitor from IN to GND (as close to the device as possible) to reduce (See Datasheet)", 20 OUT (power) "Regulator output. A capacitor greater than or equal to 10 uF must be tied from this pin to ground to assure stability. It is  recommended to connect a 47-uF ceramic capacitor from OUT to GND (as close to the device as (See Datasheet)", 21 GND (power) "TAB is internally connected to GND. An external heatsink can be installed to provide additional thermal performance."
part B pins: 2 NC "This pin can be left open or tied to any voltage between GND and IN.", 4 NC "This pin can be left open or tied to any voltage between GND and IN.", 5 NC "This pin can be left open or tied to any voltage between GND and IN.", 6 NC "This pin can be left open or tied to any voltage between GND and IN.", 8 NC "This pin can be left open or tied to any voltage between GND and IN.", 9 NC "This pin can be left open or tied to any voltage between GND and IN.", 10 NC "This pin can be left open or tied to any voltage between GND and IN.", 11 NC "This pin can be left open or tied to any voltage between GND and IN.", 12 NC "This pin can be left open or tied to any voltage between GND and IN.", 17 NC "This pin can be left open or tied to any voltage between GND and IN.", 18 NC "This pin can be left open or tied to any voltage between GND and IN.", 19 NC "This pin can be left open or tied to any voltage between GND and IN."

## TPS7A4501DCQR
designator U?
Single Output Fast Transient Response LDO, 1.5 A, Adjustable 1.21 to 20 V Output, 2.1 to 20 V Input, 6-pin SOT-223 (DCQ), -40 to 125 degC, Green (RoHS & no Sb/Br); Manufacturer: Texas Instruments; PartNumber: TPS7A4501DCQR; Accuracy(%): 1; Iout(Max)(A): 1.5; SubFamily: Single Channel LDO; Vdo(Typ)(mV): 300; Vin(Max)(V): 20; Vin(Min)(V): 2.1; Vout Adj(Min)(V): 1.21; DatasheetVersion: SLVS720D; PackageVersion: 4202109/D; PackageReference: DCQ6; PackageDescription: 6-Pin Plastic Small Outline, Body 3.5 x 6.5 mm, Pitch 1.27 mm; Supplier 1: Digi-Key; Supplier Part Number 1: TPS7A4501DCQR-ND; Supplier 2: Newark; Supplier Part Number 2: 55R7641; Supplier 3: Mouser; Supplier Part Number 3: 595-TPS7A4501DCQR; Eco-Plan: Green (RoHS & no Sb/Br); Iq(Typ)(mA): 1; Vout Adj(Max)(V): 20; Mounting Technology: Surface Mount; ComponentLink1Description: Manufacturer URL; ComponentLink1URL: http://www.ti.com/; ComponentLink2Description: Datasheet; ComponentLink2URL: http://www.ti.com/general/docs/lit/getliterature.tsp?genericPartNumber=TPS7A4501&fileType=pdf; ComponentLink3Description: Package Specification; ComponentLink3URL: http://www.ti.com/litv/pdf/mpds098c
footprint TI-DCQ6_N (SOT223, 6-Leads, Body 6.5x3.5mm, Pitch 1.27mm, IPC Medium Density)
footprint TI-DCQ6_L (SOT223, 6-Leads, Body 6.5x3.5mm, Pitch 1.27mm, IPC High Density)
footprint TI-DCQ6_M (SOT223, 6-Leads, Body 6.5x3.5mm, Pitch 1.27mm, IPC Low Density)
pins: 1 ~{SHDN} (in) "Shutdown. The S\H\D\N\ pin is used to put the TL1963A-xx regulators into a low-power shutdown state. The output is off when the S\H\D\N\ pin is pulled low. The S\H\D\N\ pin can be driven either by 5-V logic or open-collector (See Datasheet)", 2 IN (power) "Input. Power is supplied to the device through the IN pin. A bypass capacitor is required on this pin if the device is more than six inches away from the main input filter capacitor. In general, the output impedance of a (See Datasheet)", 3 GND (power) "Ground.", 4 OUT (power) "Output. The output supplies power to the load. A minimum output capacitor (ceramic) of 10 µF is required to prevent oscillations. Larger output capacitors are required for applications with large transient loads to limit (See Datasheet)", 5 ADJ (in) "Adjust. For the adjustable TL1963A, this is the input to the error amplifier. This pin is clamped internally to +/-7 V. It has a bias current of 3 µA that flows into the pin. The ADJ pin voltage is 1.21 V referenced to (See Datasheet)", 6 GND (power) "Ground."

## TPS7A4501DCQT
designator U?
Single Output Fast Transient Response LDO, 1.5 A, Adjustable 1.21 to 20 V Output, 2.1 to 20 V Input, 6-pin SOT-223 (DCQ), -40 to 125 degC, Green (RoHS & no Sb/Br); Manufacturer: Texas Instruments; PartNumber: TPS7A4501DCQT; Accuracy(%): 1; Iout(Max)(A): 1.5; SubFamily: Single Channel LDO; Vdo(Typ)(mV): 300; Vin(Max)(V): 20; Vin(Min)(V): 2.1; Vout Adj(Min)(V): 1.21; DatasheetVersion: SLVS720D; PackageVersion: 4202109/D; PackageReference: DCQ6; PackageDescription: 6-Pin Plastic Small Outline, Body 3.5 x 6.5 mm, Pitch 1.27 mm; Supplier 1: Digi-Key; Supplier Part Number 1: 296-32586-2-ND; Supplier 2: Digi-Key; Supplier Part Number 2: 296-32586-1-ND; Supplier 3: Digi-Key; Supplier Part Number 3: 296-32586-6-ND; Supplier 4: Newark; Supplier Part Number 4: 55R7642; Supplier 5: Mouser; Supplier Part Number 5: 595-TPS7A4501DCQT; Eco-Plan: Green (RoHS & no Sb/Br); Iq(Typ)(mA): 1; Vout Adj(Max)(V): 20; Mounting Technology: Surface Mount; ComponentLink1Description: Manufacturer URL; ComponentLink1URL: http://www.ti.com/; ComponentLink2Description: Datasheet; ComponentLink2URL: http://www.ti.com/general/docs/lit/getliterature.tsp?genericPartNumber=TPS7A4501&fileType=pdf; ComponentLink3Description: Package Specification; ComponentLink3URL: http://www.ti.com/litv/pdf/mpds098c
footprint TI-DCQ6_N (SOT223, 6-Leads, Body 6.5x3.5mm, Pitch 1.27mm, IPC Medium Density)
footprint TI-DCQ6_L (SOT223, 6-Leads, Body 6.5x3.5mm, Pitch 1.27mm, IPC High Density)
footprint TI-DCQ6_M (SOT223, 6-Leads, Body 6.5x3.5mm, Pitch 1.27mm, IPC Low Density)
pins: 1 ~{SHDN} (in) "Shutdown. The S\H\D\N\ pin is used to put the TL1963A-xx regulators into a low-power shutdown state. The output is off when the S\H\D\N\ pin is pulled low. The S\H\D\N\ pin can be driven either by 5-V logic or open-collector (See Datasheet)", 2 IN (power) "Input. Power is supplied to the device through the IN pin. A bypass capacitor is required on this pin if the device is more than six inches away from the main input filter capacitor. In general, the output impedance of a (See Datasheet)", 3 GND (power) "Ground.", 4 OUT (power) "Output. The output supplies power to the load. A minimum output capacitor (ceramic) of 10 µF is required to prevent oscillations. Larger output capacitors are required for applications with large transient loads to limit (See Datasheet)", 5 ADJ (in) "Adjust. For the adjustable TL1963A, this is the input to the error amplifier. This pin is clamped internally to +/-7 V. It has a bias current of 3 µA that flows into the pin. The ADJ pin voltage is 1.21 V referenced to (See Datasheet)", 6 GND (power) "Ground."

## TPS7A4501KTTR
designator U?
Single Output Fast Transient Response LDO, 1.5 A, Adjustable 1.21 to 20 V Output, 2.1 to 20 V Input, 5-pin DDPAK (KTT), -40 to 125 degC, Green (RoHS & no Sb/Br); Manufacturer: Texas Instruments; PartNumber: TPS7A4501KTTR; Accuracy(%): 1; Iout(Max)(A): 1.5; SubFamily: Single Channel LDO; Vdo(Typ)(mV): 300; Vin(Max)(V): 20; Vin(Min)(V): 2.1; Vout Adj(Min)(V): 1.21; DatasheetVersion: SLVS720D; PackageVersion: 4200577-3/F; PackageReference: KTT5; PackageDescription: 3-Pin Plastic Flange Mount, Body 10.16 x 10.34 mm, Pitch 1.7 mm; Supplier 1: Digi-Key; Supplier Part Number 1: 296-24782-2-ND; Supplier 2: Digi-Key; Supplier Part Number 2: 296-24782-1-ND; Supplier 3: Digi-Key; Supplier Part Number 3: 296-24782-6-ND; Supplier 4: Farnell; Supplier Part Number 4: 1755654RL; Supplier 5: Farnell; Supplier Part Number 5: 1755654; Supplier 6: Newark; Supplier Part Number 6: 33R2193; Supplier 7: Mouser; Supplier Part Number 7: 595-TPS7A4501KTTR; Eco-Plan: Green (RoHS & no Sb/Br); Iq(Typ)(mA): 1; Vout Adj(Max)(V): 20; Mounting Technology: Surface Mount; Code_JEDEC: TO-263; ComponentLink1Description: Manufacturer URL; ComponentLink1URL: http://www.ti.com/; ComponentLink2Description: Datasheet; ComponentLink2URL: http://www.ti.com/general/docs/lit/getliterature.tsp?genericPartNumber=TPS7A4501&fileType=pdf; ComponentLink3Description: Package Specification; ComponentLink3URL: http://www.ti.com/litv/pdf/mpsf007e
footprint TI-KTT5_N (DPAK, 5-Leads, Body 10.16x8.925mm, Pitch 1.7mm, IPC Medium Density)
footprint TI-KTT5_L (DPAK, 5-Leads, Body 10.16x8.925mm, Pitch 1.7mm, IPC High Density)
footprint TI-KTT5_M (DPAK, 5-Leads, Body 10.16x8.925mm, Pitch 1.7mm, IPC Low Density)
pins: 1 ~{SHDN} (in) "Shutdown. The S\H\D\N\ pin is used to put the TL1963A-xx regulators into a low-power shutdown state. The output is off when the S\H\D\N\ pin is pulled low. The S\H\D\N\ pin can be driven either by 5-V logic or open-collector (See Datasheet)", 2 IN (power) "Input. Power is supplied to the device through the IN pin. A bypass capacitor is required on this pin if the device is more than six inches away from the main input filter capacitor. In general, the output impedance of a (See Datasheet)", 3 GND (power) "Ground.", 4 OUT (power) "Output. The output supplies power to the load. A minimum output capacitor (ceramic) of 10 µF is required to prevent oscillations. Larger output capacitors are required for applications with large transient loads to limit (See Datasheet)", 5 ADJ (in) "Adjust. For the adjustable TL1963A, this is the input to the error amplifier. This pin is clamped internally to +/-7 V. It has a bias current of 3 µA that flows into the pin. The ADJ pin voltage is 1.21 V referenced to (See Datasheet)", 6 GND (power) "Ground."